# EAGLE library part NE5532 (library borkedlabs-opamps)
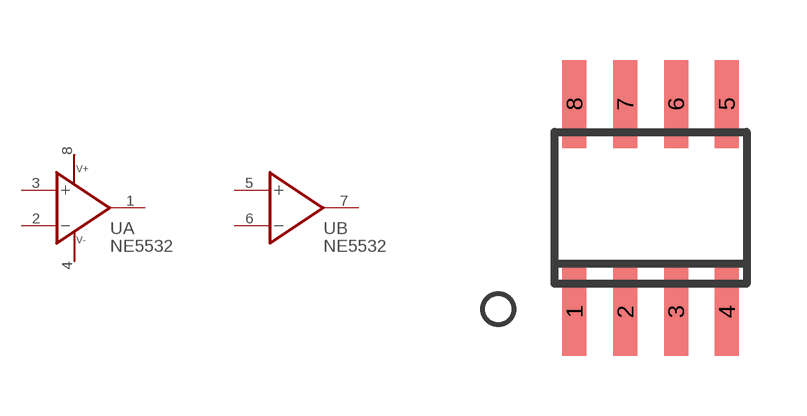
[diagram p1: symbol with the pads of SOIC-08; footprint SOIC-08]

Designator prefix U; gates A=OPAMP_SINGLE B=OPAMP_NO_PWR

## NE5532D  [SOIC-08]
1  A:OUT
2  A:-
3  A:+
4  A:V-
5  B:+
6  B:-
7  B:OUT
8  A:V+

## Footprint SOIC-08 (pad centres in mm)
D (R-PDSO-G8) Plastic Small Outline Package Source: http://focus.ti.com/lit/ds/symlink/sn65als176.pdf
smd 0.6 x 2.2: 1 -1.905,-2.6; 2 -0.635,-2.6; 3 0.635,-2.6; 4 1.905,-2.6; 5 1.905,2.6; 6 0.635,2.6; 7 -0.635,2.6; 8 -1.905,2.6